# Altium footprint library Cap SMD Pad Lib.PcbLib: 4 footprints
Each footprint in its own frame and in the unit in brackets; x right, y up, seen from the top. Pads: shape width x height; smd on the part's side, far side on the other; paste and mask are expansions set on the pad; w line width, h text height; cw(c..) or ccw(c..) is an arc to the next point about the centre after c.
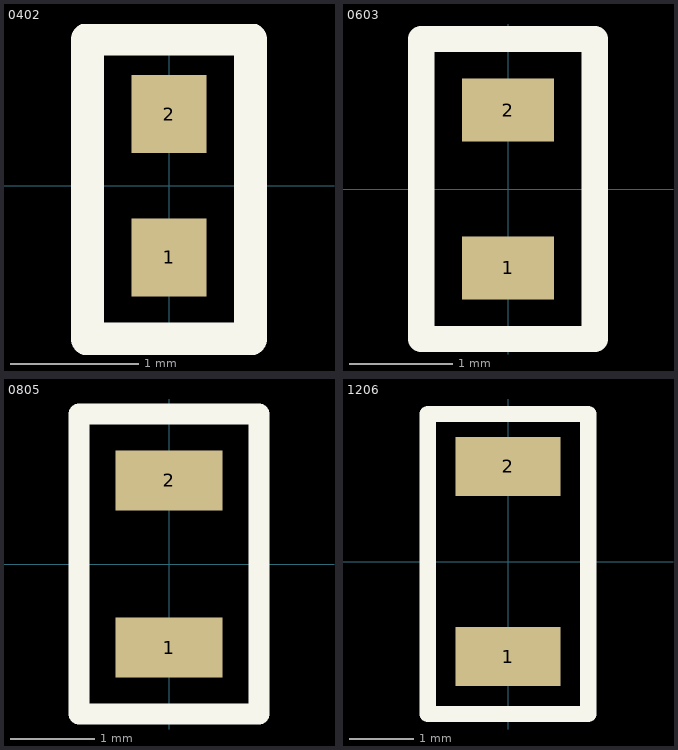
[diagram p0: the footprints below, top view; thin cyan lines are the x and y axes]

## 0402 [mil] "0402 Reflow Pad"
pads (2):
  rect 23x24 smd: 1(0,-22) 2(0,22)
Top Overlay:
  lines w10: -25,-47 25,-47 25,45 -25,45 -25,-47
3D body "Cap 0402.step": height 7.95, standoff 0, extent -11.81,-19.69 11.81,19.68

## 0603 [mil] "0603 Reflow Pad"
pads (2):
  rect 35x24 smd: 1(0,-30) 2(0,30)
Top Overlay:
  lines w10: -33,-57 33,-57 33,57 -33,57 -33,-57
3D body "Cap 0603.step": height 11.89, standoff 0, extent -15.75,-31.49 15.75,31.51

## 0805 [mil] "0805 Reflow Pad"
pads (2):
  rect 50x28 smd: 1(0,-39) 2(0,39)
Top Overlay:
  lines w10: -42,-70 -42,70 42,70 42,-70 -42,-70
3D body "Cap 0805.step": height 30.79, standoff 0, extent -24.61,-39.36 24.6,39.38

## 1206 [mil] "1206 Reflow Pad"
pads (2):
  rect 64x36 smd: 1(0,-58) 2(0,58)
Top Overlay:
  lines w10: -49,-93 49,-93 49,90 -49,90 -49,-93
3D body "Cap 1206.step": height 39.45, standoff 0, extent -31.5,-62.98 31.5,63